# EAGLE library part SGL8022W (library dpx-IC)
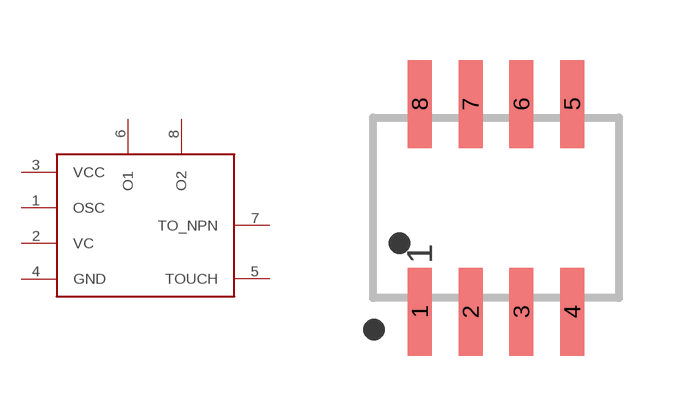
[diagram p3: symbol with the pads of SOP08; footprint SOP08]

Designator prefix -

## SGL8022WSOP8 (LCPART: C81650)  [SOP08]
1  OSC
2  VC
3  VCC
4  GND
5  TOUCH
6  O1
7  TO_NPN
8  O2

## Footprint SOP08 (pad centres in mm)
SMALL OUTLINE PACKAGE
smd 0.6 x 2.2: 1 -1.905,-2.6; 2 -0.635,-2.6; 3 0.635,-2.6; 4 1.905,-2.6; 5 1.905,2.6; 6 0.635,2.6; 7 -0.635,2.6; 8 -1.905,2.6